# EAGLE library part SWD-ICSP-HEADER (library yapo)
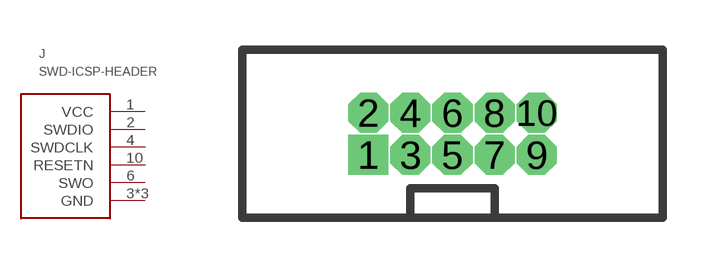
[diagram p75: symbol with the pads of HEADER-2X5-50MIL; footprint HEADER-2X5-50MIL]

Designator prefix J

## SWD-ICSP-HEADER  [HEADER-2X5-50MIL]
1  VCC
2  SWDIO
3  GND
4  SWDCLK
5  GND
6  SWO
9  GND
10  RESETN

## Footprint HEADER-2X5-50MIL (pad centres in mm)
drill 0.7 pad 1.016 square: 1 -2.54,-0.635
drill 0.7 pad 1.016 octagon: 2 -2.54,0.635; 3 -1.27,-0.635; 4 -1.27,0.635; 5 0,-0.635; 6 0,0.635; 7 1.27,-0.635; 8 1.27,0.635; 9 2.54,-0.635; 10 2.54,0.635